# EAGLE library part XC3SE250+500 (library Xilinx_Spartan3e)
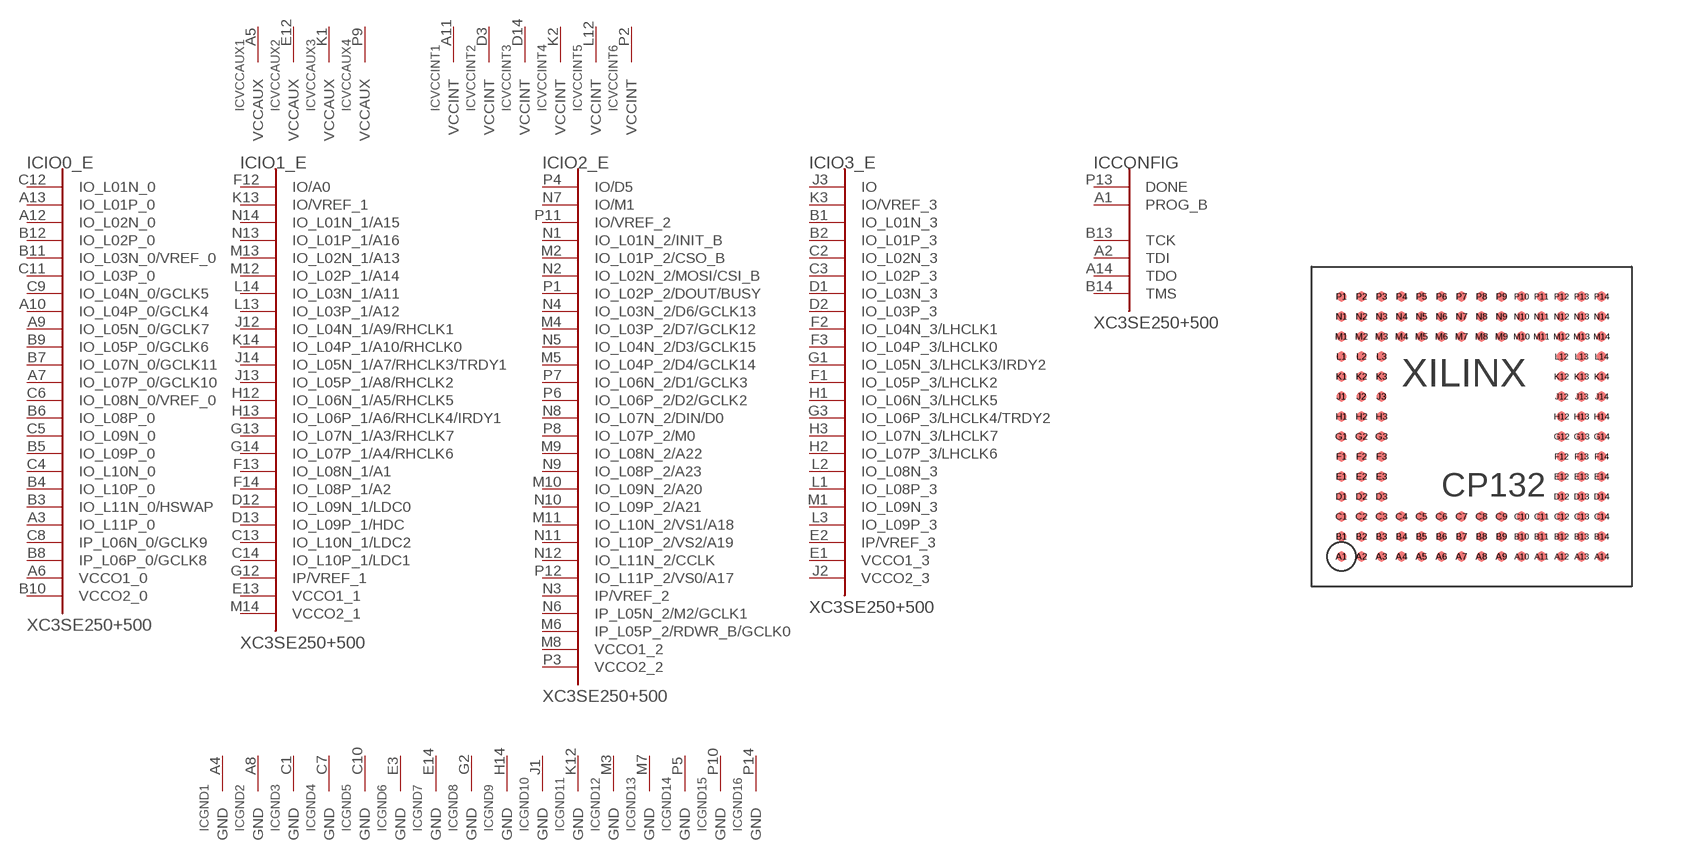
[diagram p1: symbol with the pads of CP132; footprint CP132]

Designator prefix IC; gates CONFIG=CONFIG-1 IO0_E=IO0E_CP132 IO1_E=IO1E_CP132 IO2_E=IO2E_CP132 IO3_E=IO3E_CP132 GND1=GND-1 GND2=GND-1 GND3=GND-1 GND4=GND-1 GND5=GND-1 GND6=GND-1 GND8=GND-1 GND9=GND-1 GND7=GND-1 GND10=GND-1 GND11=GND-1 GND12=GND-1 GND13=GND-1 GND14=GND-1 GND15=GND-1 GND16=GND-1 VCCAUX1=VCCAUX-1 VCCAUX2=VCCAUX-1 VCCAUX3=VCCAUX-1 VCCAUX4=VCCAUX-1 VCCINT1=VCCINT-1 VCCINT2=VCCINT-1 VCCINT3=VCCINT-1 VCCINT4=VCCINT-1 VCCINT5=VCCINT-1 VCCINT6=VCCINT-1

## XC3SE250+500CP132  [CP132]
A1  CONFIG:PROG_B  in
A2  CONFIG:TDI  in
A3  IO0_E:IO_L11P_0
A4  GND1:GND  pwr
A5  VCCAUX1:VCCAUX  pwr
A6  IO0_E:VCCO1_0  pwr
A7  IO0_E:IO_L07P_0/GCLK10
A8  GND2:GND  pwr
A9  IO0_E:IO_L05N_0/GCLK7
A10  IO0_E:IO_L04P_0/GCLK4
A11  VCCINT1:VCCINT  pwr
A12  IO0_E:IO_L02N_0
A13  IO0_E:IO_L01P_0
A14  CONFIG:TDO
B1  IO3_E:IO_L01N_3
B2  IO3_E:IO_L01P_3
B3  IO0_E:IO_L11N_0/HSWAP
B4  IO0_E:IO_L10P_0
B5  IO0_E:IO_L09P_0
B6  IO0_E:IO_L08P_0
B7  IO0_E:IO_L07N_0/GCLK11
B8  IO0_E:IP_L06P_0/GCLK8  in
B9  IO0_E:IO_L05P_0/GCLK6
B10  IO0_E:VCCO2_0  pwr
B11  IO0_E:IO_L03N_0/VREF_0
B12  IO0_E:IO_L02P_0
B13  CONFIG:TCK  in
B14  CONFIG:TMS  in
C1  GND3:GND  pwr
C2  IO3_E:IO_L02N_3
C3  IO3_E:IO_L02P_3
C4  IO0_E:IO_L10N_0
C5  IO0_E:IO_L09N_0
C6  IO0_E:IO_L08N_0/VREF_0
C7  GND4:GND  pwr
C8  IO0_E:IP_L06N_0/GCLK9  in
C9  IO0_E:IO_L04N_0/GCLK5
C10  GND5:GND  pwr
C11  IO0_E:IO_L03P_0
C12  IO0_E:IO_L01N_0
C13  IO1_E:IO_L10N_1/LDC2
C14  IO1_E:IO_L10P_1/LDC1
D1  IO3_E:IO_L03N_3
D2  IO3_E:IO_L03P_3
D3  VCCINT2:VCCINT  pwr
D12  IO1_E:IO_L09N_1/LDC0
D13  IO1_E:IO_L09P_1/HDC
D14  VCCINT3:VCCINT  pwr
E1  IO3_E:VCCO1_3  pwr
E2  IO3_E:IP/VREF_3  in
E3  GND6:GND  pwr
E12  VCCAUX2:VCCAUX  pwr
E13  IO1_E:VCCO1_1  pwr
E14  GND7:GND  pwr
F1  IO3_E:IO_L05P_3/LHCLK2
F2  IO3_E:IO_L04N_3/LHCLK1
F3  IO3_E:IO_L04P_3/LHCLK0
F12  IO1_E:IO/A0
F13  IO1_E:IO_L08N_1/A1
F14  IO1_E:IO_L08P_1/A2
G1  IO3_E:IO_L05N_3/LHCLK3/IRDY2
G2  GND8:GND  pwr
G3  IO3_E:IO_L06P_3/LHCLK4/TRDY2
G12  IO1_E:IP/VREF_1  in
G13  IO1_E:IO_L07N_1/A3/RHCLK7
G14  IO1_E:IO_L07P_1/A4/RHCLK6
H1  IO3_E:IO_L06N_3/LHCLK5
H2  IO3_E:IO_L07P_3/LHCLK6
H3  IO3_E:IO_L07N_3/LHCLK7
H12  IO1_E:IO_L06N_1/A5/RHCLK5
H13  IO1_E:IO_L06P_1/A6/RHCLK4/IRDY1
H14  GND9:GND  pwr
J1  GND10:GND  pwr
J2  IO3_E:VCCO2_3  pwr
J3  IO3_E:IO
J12  IO1_E:IO_L04N_1/A9/RHCLK1
J13  IO1_E:IO_L05P_1/A8/RHCLK2
J14  IO1_E:IO_L05N_1/A7/RHCLK3/TRDY1
K1  VCCAUX3:VCCAUX  pwr
K2  VCCINT4:VCCINT  pwr
K3  IO3_E:IO/VREF_3
K12  GND11:GND  pwr
K13  IO1_E:IO/VREF_1
K14  IO1_E:IO_L04P_1/A10/RHCLK0
L1  IO3_E:IO_L08P_3
L2  IO3_E:IO_L08N_3
L3  IO3_E:IO_L09P_3
L12  VCCINT5:VCCINT  pwr
L13  IO1_E:IO_L03P_1/A12
L14  IO1_E:IO_L03N_1/A11
M1  IO3_E:IO_L09N_3
M2  IO2_E:IO_L01P_2/CSO_B
M3  GND12:GND  pwr
M4  IO2_E:IO_L03P_2/D7/GCLK12
M5  IO2_E:IO_L04P_2/D4/GCLK14
M6  IO2_E:IP_L05P_2/RDWR_B/GCLK0  in
M7  GND13:GND  pwr
M8  IO2_E:VCCO1_2  pwr
M9  IO2_E:IO_L08N_2/A22
M10  IO2_E:IO_L09N_2/A20
M11  IO2_E:IO_L10N_2/VS1/A18
M12  IO1_E:IO_L02P_1/A14
M13  IO1_E:IO_L02N_1/A13
M14  IO1_E:VCCO2_1  pwr
N1  IO2_E:IO_L01N_2/INIT_B
N2  IO2_E:IO_L02N_2/MOSI/CSI_B
N3  IO2_E:IP/VREF_2  in
N4  IO2_E:IO_L03N_2/D6/GCLK13
N5  IO2_E:IO_L04N_2/D3/GCLK15
N6  IO2_E:IP_L05N_2/M2/GCLK1  in
N7  IO2_E:IO/M1
N8  IO2_E:IO_L07N_2/DIN/D0
N9  IO2_E:IO_L08P_2/A23
N10  IO2_E:IO_L09P_2/A21
N11  IO2_E:IO_L10P_2/VS2/A19
N12  IO2_E:IO_L11N_2/CCLK
N13  IO1_E:IO_L01P_1/A16
N14  IO1_E:IO_L01N_1/A15
P1  IO2_E:IO_L02P_2/DOUT/BUSY
P2  VCCINT6:VCCINT  pwr
P3  IO2_E:VCCO2_2  pwr
P4  IO2_E:IO/D5
P5  GND14:GND  pwr
P6  IO2_E:IO_L06P_2/D2/GCLK2
P7  IO2_E:IO_L06N_2/D1/GCLK3
P8  IO2_E:IO_L07P_2/M0
P9  VCCAUX4:VCCAUX  pwr
P10  GND15:GND  pwr
P11  IO2_E:IO/VREF_2
P12  IO2_E:IO_L11P_2/VS0/A17
P13  CONFIG:DONE
P14  GND16:GND  pwr

## Footprint CP132 (pad centres in mm)
smd 0.25 x 0.25: A1 -3.25,-3.25; A2 -2.75,-3.25; A3 -2.25,-3.25; A4 -1.75,-3.25; A5 -1.25,-3.25; A6 -0.75,-3.25; A7 -0.25,-3.25; A8 0.25,-3.25; A9 0.75,-3.25; A10 1.25,-3.25; A11 1.75,-3.25; A12 2.25,-3.25; A13 2.75,-3.25; A14 3.25,-3.25; B1 -3.25,-2.75; B2 -2.75,-2.75; B3 -2.25,-2.75; B4 -1.75,-2.75; B5 -1.25,-2.75; B6 -0.75,-2.75; B7 -0.25,-2.75; B8 0.25,-2.75; B9 0.75,-2.75; B10 1.25,-2.75; B11 1.75,-2.75; B12 2.25,-2.75; B13 2.75,-2.75; B14 3.25,-2.75; C1 -3.25,-2.25; C2 -2.75,-2.25; C3 -2.25,-2.25; C4 -1.75,-2.25; C5 -1.25,-2.25; C6 -0.75,-2.25; C7 -0.25,-2.25; C8 0.25,-2.25; C9 0.75,-2.25; C10 1.25,-2.25; C11 1.75,-2.25; C12 2.25,-2.25; C13 2.75,-2.25; C14 3.25,-2.25; D1 -3.25,-1.75; D2 -2.75,-1.75; D3 -2.25,-1.75; D12 2.25,-1.75; D13 2.75,-1.75; D14 3.25,-1.75; E1 -3.25,-1.25; E2 -2.75,-1.25; E3 -2.25,-1.25; E12 2.25,-1.25; E13 2.75,-1.25; E14 3.25,-1.25; F1 -3.25,-0.75; F2 -2.75,-0.75; F3 -2.25,-0.75; F12 2.25,-0.75; F13 2.75,-0.75; F14 3.25,-0.75; G1 -3.25,-0.25; G2 -2.75,-0.25; G3 -2.25,-0.25; G12 2.25,-0.25; G13 2.75,-0.25; G14 3.25,-0.25; H1 -3.25,0.25; H2 -2.75,0.25; H3 -2.25,0.25; H12 2.25,0.25; H13 2.75,0.25; H14 3.25,0.25; J1 -3.25,0.75; J2 -2.75,0.75; J3 -2.25,0.75; J12 2.25,0.75; J13 2.75,0.75; J14 3.25,0.75; K1 -3.25,1.25; K2 -2.75,1.25; K3 -2.25,1.25; K12 2.25,1.25; K13 2.75,1.25; K14 3.25,1.25; L1 -3.25,1.75; L2 -2.75,1.75; L3 -2.25,1.75; L12 2.25,1.75; L13 2.75,1.75; L14 3.25,1.75; M1 -3.25,2.25; M2 -2.75,2.25; M3 -2.25,2.25; M4 -1.75,2.25; M5 -1.25,2.25; M6 -0.75,2.25; M7 -0.25,2.25; M8 0.25,2.25; M9 0.75,2.25; M10 1.25,2.25; M11 1.75,2.25; M12 2.25,2.25; M13 2.75,2.25; M14 3.25,2.25; N1 -3.25,2.75; N2 -2.75,2.75; N3 -2.25,2.75; N4 -1.75,2.75; N5 -1.25,2.75; N6 -0.75,2.75; N7 -0.25,2.75; N8 0.25,2.75; N9 0.75,2.75; N10 1.25,2.75; N11 1.75,2.75; N12 2.25,2.75; N13 2.75,2.75; N14 3.25,2.75; P1 -3.25,3.25; P2 -2.75,3.25; P3 -2.25,3.25; P4 -1.75,3.25; P5 -1.25,3.25; P6 -0.75,3.25; P7 -0.25,3.25; P8 0.25,3.25; P9 0.75,3.25; P10 1.25,3.25; P11 1.75,3.25; P12 2.25,3.25; P13 2.75,3.25; P14 3.25,3.25